# Altium footprint library SMT.PcbLib: 1 footprints
Each footprint in its own frame and in the unit in brackets; x right, y up, seen from the top. Pads: shape width x height; smd on the part's side, far side on the other; paste and mask are expansions set on the pad; w line width, h text height; cw(c..) or ccw(c..) is an arc to the next point about the centre after c.
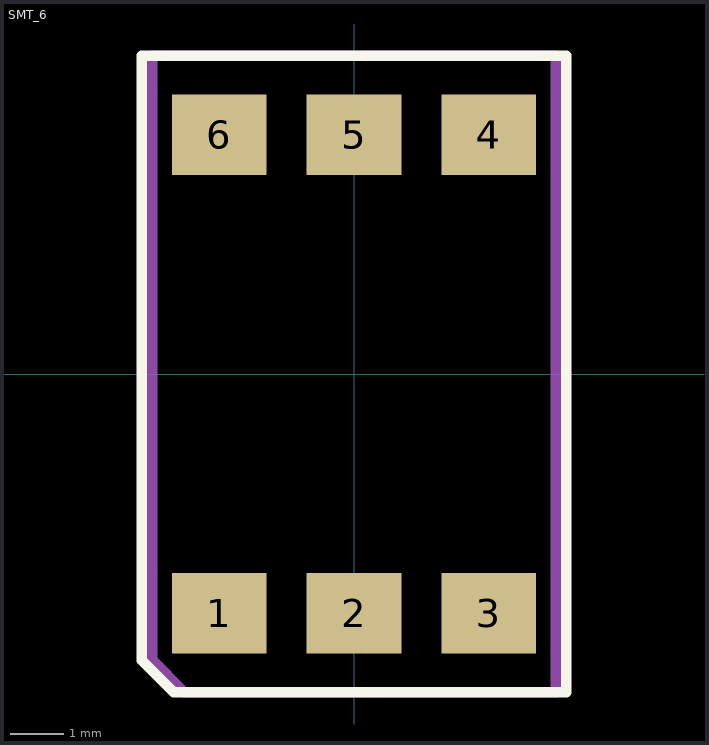
[diagram p0: the footprint, top view; thin cyan lines are the x and y axes]

## SMT_6 [mm]
pads (6):
  rect 1.787x1.52 smd: 1(-2.54,-4.51) 2(0,-4.51) 3(2.54,-4.51) 4(2.54,4.51) 5(0,4.51) 6(-2.54,4.51)
Top Overlay:
  lines w0.2: -4,-5.4 -3.4,-6 4,-6 4,6 -4,6 -4,-5.4
Assembly_top:
  lines w0.2: -3.81,-5.39 -3.81,6 3.81,6 3.81,-6 -3.2,-6 -3.81,-5.39
  text ".Designator" at 0,-2.54 h1.52